# EAGLE library part MC68060RC50 (library MC68060RC50)
Microprocessors - MPU 32B W/ CACHE MMU FPU Source: Datasheet <https://componentsearchengine.com/Datasheets/1/MC68060RC50.pdf>
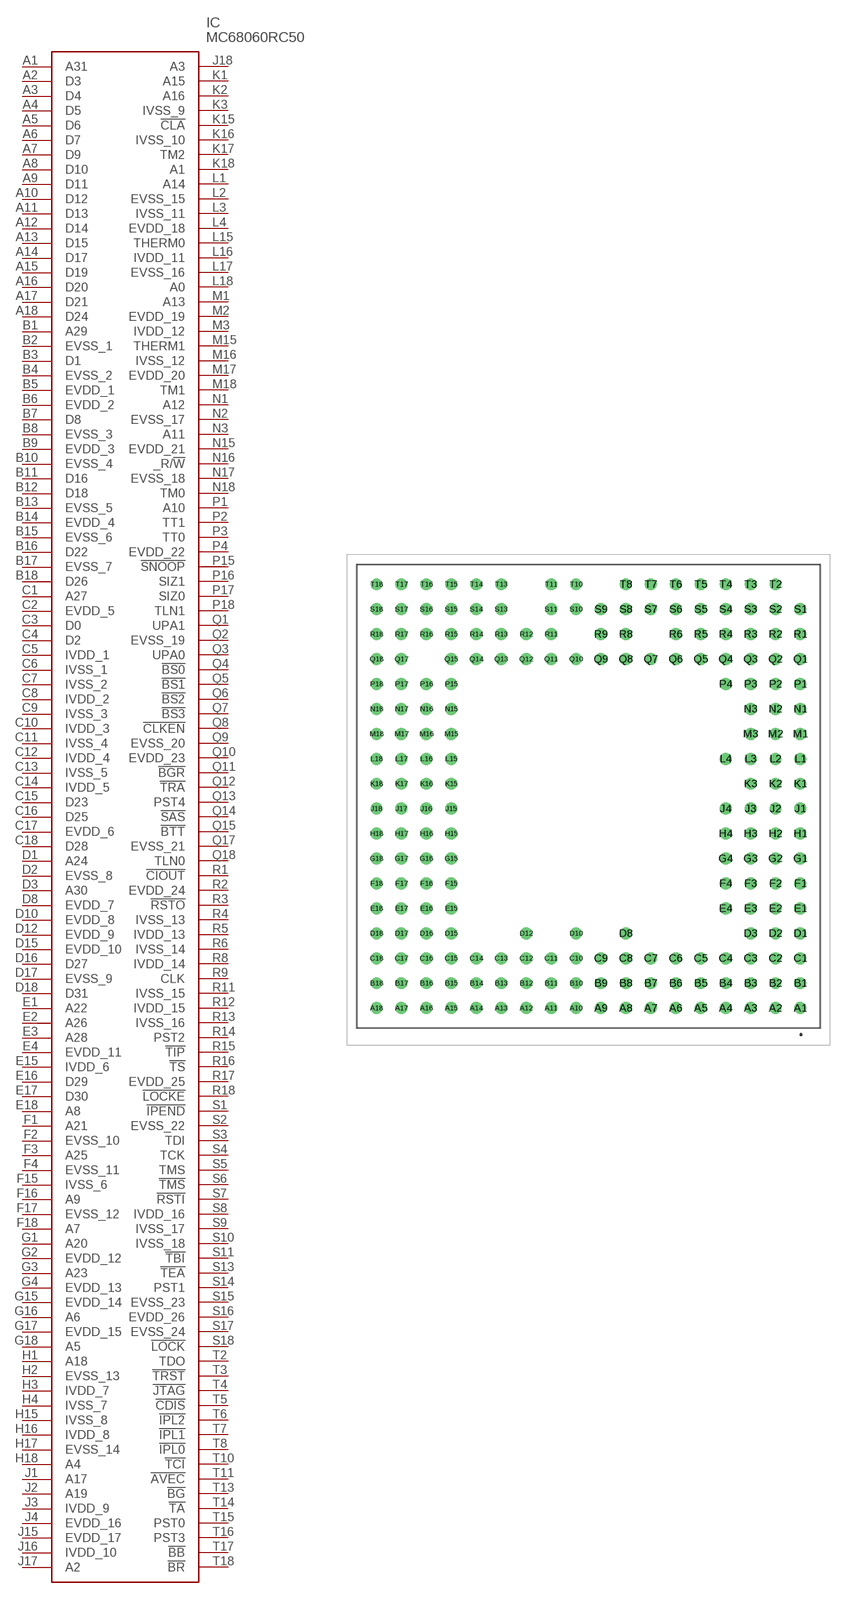
[diagram p0: symbol with the pads of MC68060RC50; footprint MC68060RC50]

Designator prefix IC

## MC68060RC50 (Arrow_Part_Number: MC68060RC50; Description: Microprocessors - MPU 32B W/ CACHE MMU FPU; Height: 3.05mm; Manufacturer_Name: Nexperia; Manufacturer_Part_Number: MC68060RC50; Mouser_Part_Number: 841-MC68060RC50; Mouser_Price-Stock: https://www.mouser.com/Search/Refine.aspx?Keyword=841-MC68060RC50)  [MC68060RC50]
A1  A31
A2  D3
A3  D4
A4  D5
A5  D6
A6  D7
A7  D9
A8  D10
A9  D11
A10  D12
A11  D13
A12  D14
A13  D15
A14  D17
A15  D19
A16  D20
A17  D21
A18  D24
B1  A29
B2  EVSS_1
B3  D1
B4  EVSS_2
B5  EVDD_1
B6  EVDD_2
B7  D8
B8  EVSS_3
B9  EVDD_3
B10  EVSS_4
B11  D16
B12  D18
B13  EVSS_5
B14  EVDD_4
B15  EVSS_6
B16  D22
B17  EVSS_7
B18  D26
C1  A27
C2  EVDD_5
C3  D0
C4  D2
C5  IVDD_1
C6  IVSS_1
C7  IVSS_2
C8  IVDD_2
C9  IVSS_3
C10  IVDD_3
C11  IVSS_4
C12  IVDD_4
C13  IVSS_5
C14  IVDD_5
C15  D23
C16  D25
C17  EVDD_6
C18  D28
D1  A24
D2  EVSS_8
D3  A30
D8  EVDD_7
D10  EVDD_8
D12  EVDD_9
D15  EVDD_10
D16  D27
D17  EVSS_9
D18  D31
E1  A22
E2  A26
E3  A28
E4  EVDD_11
E15  IVDD_6
E16  D29
E17  D30
E18  A8
F1  A21
F2  EVSS_10
F3  A25
F4  EVSS_11
F15  IVSS_6
F16  A9
F17  EVSS_12
F18  A7
G1  A20
G2  EVDD_12
G3  A23
G4  EVDD_13
G15  EVDD_14
G16  A6
G17  EVDD_15
G18  A5
H1  A18
H2  EVSS_13
H3  IVDD_7
H4  IVSS_7
H15  IVSS_8
H16  IVDD_8
H17  EVSS_14
H18  A4
J1  A17
J2  A19
J3  IVDD_9
J4  EVDD_16
J15  EVDD_17
J16  IVDD_10
J17  A2
J18  A3
K1  A15
K2  A16
K3  IVSS_9
K15  !CLA
K16  IVSS_10
K17  TM2
K18  A1
L1  A14
L2  EVSS_15
L3  IVSS_11
L4  EVDD_18
L15  THERM0
L16  IVDD_11
L17  EVSS_16
L18  A0
M1  A13
M2  EVDD_19
M3  IVDD_12
M15  THERM1
M16  IVSS_12
M17  EVDD_20
M18  TM1
N1  A12
N2  EVSS_17
N3  A11
N15  EVDD_21
N16  _R/!W
N17  EVSS_18
N18  TM0
P1  A10
P2  TT1
P3  TT0
P4  EVDD_22
P15  !SNOOP
P16  SIZ1
P17  SIZ0
P18  TLN1
Q1  UPA1
Q2  EVSS_19
Q3  UPA0
Q4  !BS0
Q5  !BS1
Q6  !BS2
Q7  !BS3
Q8  !CLKEN
Q9  EVSS_20
Q10  EVDD_23
Q11  !BGR
Q12  !TRA
Q13  PST4
Q14  !SAS
Q15  !BTT
Q17  EVSS_21
Q18  TLN0
R1  !CIOUT
R2  EVDD_24
R3  !RSTO
R4  IVSS_13
R5  IVDD_13
R6  IVSS_14
R8  IVDD_14
R9  CLK
R11  IVSS_15
R12  IVDD_15
R13  IVSS_16
R14  PST2
R15  !TIP
R16  !TS
R17  EVDD_25
R18  !LOCKE
S1  !IPEND
S2  EVSS_22
S3  TDI
S4  TCK
S5  TMS
S6  !TMS
S7  !RSTI
S8  IVDD_16
S9  IVSS_17
S10  IVSS_18
S11  !TBI
S13  !TEA
S14  PST1
S15  EVSS_23
S16  EVDD_26
S17  EVSS_24
S18  !LOCK
T2  TDO
T3  !TRST
T4  !JTAG
T5  !CDIS
T6  !IPL2
T7  !IPL1
T8  !IPL0
T10  !TCI
T11  !AVEC
T13  !BG
T14  !TA
T15  PST0
T16  PST3
T17  !BB
T18  !BR

## Footprint MC68060RC50 (pad centres in mm)
MC68060RC50-6
drill 0.71 pad 1.21: A1 0,0; A2 -2.54,0; A3 -5.08,0; A4 -7.62,0; A5 -10.16,0; A6 -12.7,0; A7 -15.24,0; A8 -17.78,0; A9 -20.32,0; A10 -22.86,0; A11 -25.4,0; A12 -27.94,0; A13 -30.48,0; A14 -33.02,0; A15 -35.56,0; A16 -38.1,0; A17 -40.64,0; A18 -43.18,0; B1 0,2.54; B2 -2.54,2.54; B3 -5.08,2.54; B4 -7.62,2.54; B5 -10.16,2.54; B6 -12.7,2.54; B7 -15.24,2.54; B8 -17.78,2.54; B9 -20.32,2.54; B10 -22.86,2.54; B11 -25.4,2.54; B12 -27.94,2.54; B13 -30.48,2.54; B14 -33.02,2.54; B15 -35.56,2.54; B16 -38.1,2.54; B17 -40.64,2.54; B18 -43.18,2.54; C1 0,5.08; C2 -2.54,5.08; C3 -5.08,5.08; C4 -7.62,5.08; C5 -10.16,5.08; C6 -12.7,5.08; C7 -15.24,5.08; C8 -17.78,5.08; C9 -20.32,5.08; C10 -22.86,5.08; C11 -25.4,5.08; C12 -27.94,5.08; C13 -30.48,5.08; C14 -33.02,5.08; C15 -35.56,5.08; C16 -38.1,5.08; C17 -40.64,5.08; C18 -43.18,5.08; D1 0,7.62; D2 -2.54,7.62; D3 -5.08,7.62; D8 -17.78,7.62; D10 -22.86,7.62; D12 -27.94,7.62; D15 -35.56,7.62; D16 -38.1,7.62; D17 -40.64,7.62; D18 -43.18,7.62; E1 0,10.16; E2 -2.54,10.16; E3 -5.08,10.16; E4 -7.62,10.16; E15 -35.56,10.16; E16 -38.1,10.16; E17 -40.64,10.16; E18 -43.18,10.16; F1 0,12.7; F2 -2.54,12.7; F3 -5.08,12.7; F4 -7.62,12.7; F15 -35.56,12.7; F16 -38.1,12.7; F17 -40.64,12.7; F18 -43.18,12.7; G1 0,15.24; G2 -2.54,15.24; G3 -5.08,15.24; G4 -7.62,15.24; G15 -35.56,15.24; G16 -38.1,15.24; G17 -40.64,15.24; G18 -43.18,15.24; H1 0,17.78; H2 -2.54,17.78; H3 -5.08,17.78; H4 -7.62,17.78; H15 -35.56,17.78; H16 -38.1,17.78; H17 -40.64,17.78; H18 -43.18,17.78; J1 0,20.32; J2 -2.54,20.32; J3 -5.08,20.32; J4 -7.62,20.32; J15 -35.56,20.32; J16 -38.1,20.32; J17 -40.64,20.32; J18 -43.18,20.32; K1 0,22.86; K2 -2.54,22.86; K3 -5.08,22.86; K15 -35.56,22.86; K16 -38.1,22.86; K17 -40.64,22.86; K18 -43.18,22.86; L1 0,25.4; L2 -2.54,25.4; L3 -5.08,25.4; L4 -7.62,25.4; L15 -35.56,25.4; L16 -38.1,25.4; L17 -40.64,25.4; L18 -43.18,25.4; M1 0,27.94; M2 -2.54,27.94; M3 -5.08,27.94; M15 -35.56,27.94; M16 -38.1,27.94; M17 -40.64,27.94; M18 -43.18,27.94; N1 0,30.48; N2 -2.54,30.48; N3 -5.08,30.48; N15 -35.56,30.48; N16 -38.1,30.48; N17 -40.64,30.48; N18 -43.18,30.48; P1 0,33.02; P2 -2.54,33.02; P3 -5.08,33.02; P4 -7.62,33.02; P15 -35.56,33.02; P16 -38.1,33.02; P17 -40.64,33.02; P18 -43.18,33.02; Q1 0,35.56; Q2 -2.54,35.56; Q3 -5.08,35.56; Q4 -7.62,35.56; Q5 -10.16,35.56; Q6 -12.7,35.56; Q7 -15.24,35.56; Q8 -17.78,35.56; Q9 -20.32,35.56; Q10 -22.86,35.56; Q11 -25.4,35.56; Q12 -27.94,35.56; Q13 -30.48,35.56; Q14 -33.02,35.56; Q15 -35.56,35.56; Q17 -40.64,35.56; Q18 -43.18,35.56; R1 0,38.1; R2 -2.54,38.1; R3 -5.08,38.1; R4 -7.62,38.1; R5 -10.16,38.1; R6 -12.7,38.1; R8 -17.78,38.1; R9 -20.32,38.1; R11 -25.4,38.1; R12 -27.94,38.1; R13 -30.48,38.1; R14 -33.02,38.1; R15 -35.56,38.1; R16 -38.1,38.1; R17 -40.64,38.1; R18 -43.18,38.1; S1 0,40.64; S2 -2.54,40.64; S3 -5.08,40.64; S4 -7.62,40.64; S5 -10.16,40.64; S6 -12.7,40.64; S7 -15.24,40.64; S8 -17.78,40.64; S9 -20.32,40.64; S10 -22.86,40.64; S11 -25.4,40.64; S13 -30.48,40.64; S14 -33.02,40.64; S15 -35.56,40.64; S16 -38.1,40.64; S17 -40.64,40.64; S18 -43.18,40.64; T2 -2.54,43.18; T3 -5.08,43.18; T4 -7.62,43.18; T5 -10.16,43.18; T6 -12.7,43.18; T7 -15.24,43.18; T8 -17.78,43.18; T10 -22.86,43.18; T11 -25.4,43.18; T13 -30.48,43.18; T14 -33.02,43.18; T15 -35.56,43.18; T16 -38.1,43.18; T17 -40.64,43.18; T18 -43.18,43.18